# EAGLE library part SY6982C (library SY6982C)
SY6982C - High Efficiency, 2A, Two-Cell Boost Li-Ion Battery Charger Datasheet: https://github.com/DFRobot/Wiki/raw/master/DFR0564/res/AN-SY6982C-.pdf Library designed by AKstudios <https://github.com/akstudios>
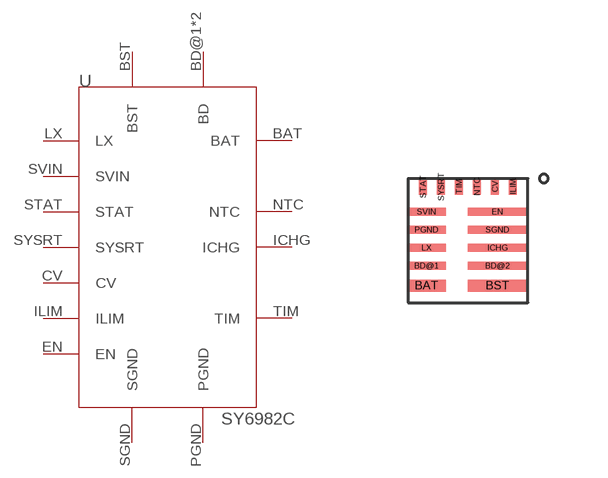
[diagram p0: symbol with the pads of QFN3X3-16; footprint QFN3X3-16]

Designator prefix U

## SY6982C  [QFN3X3-16]
BAT  BAT
BD@1  BD
BD@2  BD
BST  BST
CV  CV
EN  EN
ICHG  ICHG
ILIM  ILIM
LX  LX
NTC  NTC
PGND  PGND
SGND  SGND
STAT  STAT
SVIN  SVIN
SYSRT  SYSRT
TIM  TIM

## Footprint QFN3X3-16 (pad centres in mm)
smd 0.97 x 0.3: BAT -1.035,-1.175
smd 0.97 x 0.2: BD@1 -1.035,-0.675; LX -1.035,-0.225; PGND -1.035,0.225; SVIN -1.035,0.675
smd 1.48 x 0.2: BD@2 0.74,-0.675; EN 0.74,0.675; ICHG 0.74,-0.225; SGND 0.74,0.225
smd 1.48 x 0.3: BST 0.74,-1.175
smd 0.2 x 0.4: CV 0.675,1.3; ILIM 1.125,1.3; NTC 0.225,1.3; STAT -1.125,1.3; SYSRT -0.675,1.3; TIM -0.225,1.3